# Altium integrated library Microver.IntLib: 9 symbols
Pins are listed as number, name and electrical type; pins without a type are passive.

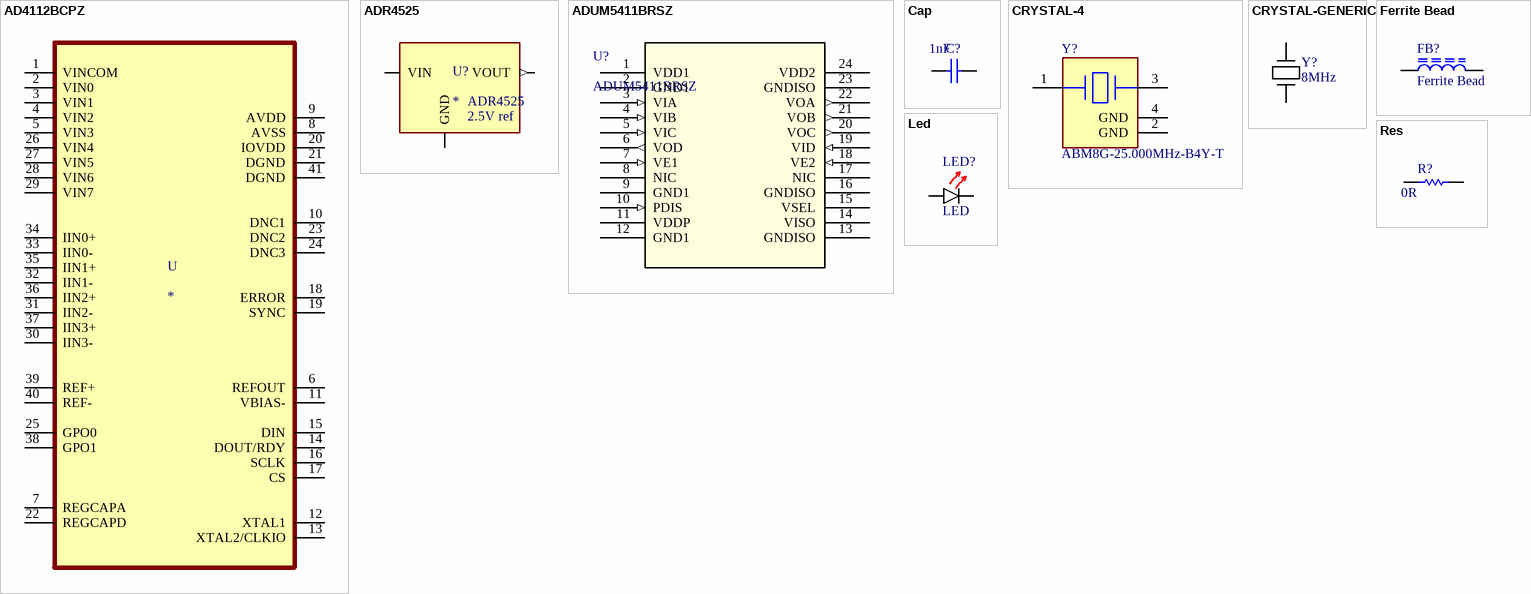
[diagram p0: symbols AD4112BCPZ to Res]

## AD4112BCPZ
designator U
24 Bit Analog to Digital Converter 4, 8 Input 1 Sigma-Delta 40-LFCSP-VQ _6x6_
footprint QFN50P600X600X100-41P
pins: 1 VINCOM, 2 VIN0, 3 VIN1, 4 VIN2, 5 VIN3, 6 REFOUT, 7 REGCAPA, 8 AVSS, 9 AVDD, 10 DNC1, 11 VBIAS-, 12 XTAL1, 13 XTAL2/CLKIO, 14 DOUT/RDY, 15 DIN, 16 SCLK, 17 CS, 18 ERROR, 19 SYNC, 20 IOVDD, 21 DGND, 22 REGCAPD, 23 DNC2, 24 DNC3, 25 GPO0, 26 VIN4, 27 VIN5, 28 VIN6, 29 VIN7, 30 IIN3-, 31 IIN2-, 32 IIN1-, 33 IIN0-, 34 IIN0+, 35 IIN1+, 36 IIN2+, 37 IIN3+, 38 GPO1, 39 REF+, 40 REF-, 41 DGND

## ADR4525
designator U?
Series Voltage Reference IC Fixed 2.5V V Â±0.02% 10 mA 8-SOIC; MF: Analog Devices; MP: ADR4525; SnapEDA_Link: https://www.snapeda.com/parts/ADR4525/Analog+Devices/view-part/?ref=snap; Package: SOIC-8 Analog Devices; Value: *; Check_prices: https://www.snapeda.com/parts/ADR4525/Analog+Devices/view-part/?ref=eda; Manufacturer Part Number: *
footprint SOIC-8
pins: 2 VIN (power), 4 GND (power), 6 VOUT (out)
text: 2.5V ref

## ADUM5411BRSZ
designator U?
Robust 2.5 kV rms Quad-Channel Isolator with Integrated DC-to-DC Converter & 1 Reverse Channel; Manufacturer_Name: Analog Devices Inc; Copyright: Copyright (C) 2025 Ultra Librarian. All rights reserved.; Manufacturer Part Number: ADUM5411BRSZ; Datasheet: https://www.analog.com/media/en/technical-documentation/data-sheets/ADuM5410-5411-5412.pdf; RefDes: RefDes; Type: Type
footprint RS-24_ADI
pins: 1 VDD1 (power), 2 GND1 (power), 3 VIA (in), 4 VIB (in), 5 VIC (in), 6 VOD (out), 7 VE1 (in), 8 NIC, 9 GND1 (power), 10 PDIS (in), 11 VDDP (power), 12 GND1 (power), 13 GNDISO (power), 14 VISO (power), 15 VSEL (power), 16 GNDISO (power), 17 NIC, 18 VE2 (in), 19 VID (in), 20 VOC (out), 21 VOB (out), 22 VOA (out), 23 GNDISO (power), 24 VDD2 (power)

## Cap
designator C?, comment value 1nF  (hidden comment: 100nF)
LCSC PART #: C2894188
footprint 0603_C (Capacitor)
footprint 0805_C
footprint 1206_C
footprint 1210_C
footprint 0402_C
pins: 1, 2

## CRYSTAL-4
designator Y?, comment ABM8G-25.000MHz-B4Y-T
ABRACON - ABM8G-25.000MHZ-B4Y-T - CRYSTAL, 25MHZ, 10PF, 3.2 X 2.5MM; Frequency Stability: 30ppm; ESR (Equivalent Series Resistance): 60R; Supplier 1: Digi-Key; Supplier Part Number 1: 535-10297-1-ND; Manufacturer: Abracon; Manufacturer Part Number: ABM8G-25.000MHZ-B4Y-T; RoHS: Yes; Category: Crystals; Stock 1: 1081; Pricing 1: 1=0,82000, 10=0,72900, 50=0,68120, 100=0,60190, 500=0,57024 (USD); Mount: Surface Mount; Case/Package: SMD/SMT; Number of Pins: 4; Min Operating Temperature: -20°C; Max Operating Temperature: 70°C; Termination: SMD/SMT; Packaging: Tape and Reel; Frequency Tolerance: 30ppm; Load Capacitance: 10pF; Frequency: 25MHz; Package Quantity: 1000; Tolerance: 30ppm; Series Resistance: 60R; Length: 3.2mm; Width: 0.098inch; Height: 0.039inch; Depth: 2.5mm; REACH SVHC: Unknown; Lead Free: Lead Free; ComponentLink1URL: https://datasheet.ciiva.com/7998/abm8g-7998635.pdf?src-supplier=Element14; ComponentLink1Description: https://datasheet.ciiva.com/7998/abm8g-7998635.pdf?src-supplier=Element14; ComponentLink2URL: https://datasheet.ciiva.com/855/abm8g-855228.pdf?src-supplier=Digi-Key; ComponentLink2Description: https://datasheet.ciiva.com/855/abm8g-855228.pdf?src-supplier=Digi-Key; ComponentLink3URL: https://datasheet.ciiva.com/16416/abm8g-16416874.pdf?src-supplier=Future+Electronics; ComponentLink3Description: https://datasheet.ciiva.com/16416/abm8g-16416874.pdf?src-supplier=Future+Electronics; ComponentLink4URL: https://datasheet.ciiva.com/28508/1883677-28508586.pdf?src-supplier=Element14; ComponentLink4Description: https://datasheet.ciiva.com/28508/1883677-28508586.pdf?src-supplier=Element14; ComponentLink5URL: https://datasheet.ciiva.com/855/abm8g-855229.pdf?src-supplier=Digi-Key; ComponentLink5Description: https://datasheet.ciiva.com/855/abm8g-855229.pdf?src-supplier=Digi-Key; ComponentLink6URL: https://datasheet.ciiva.com/855/abm8g-855230.pdf?src-supplier=Digi-Key; ComponentLink6Description: https://datasheet.ciiva.com/855/abm8g-855230.pdf?src-supplier=Digi-Key; ComponentLink7URL: https://datasheet.ciiva.com/4945/abm8g-10572-4945134.pdf?src-supplier=Mouser; ComponentLink7Description: https://datasheet.ciiva.com/4945/abm8g-10572-4945134.pdf?src-supplier=Mouser
footprint FP-ABM8G-MFG
pins: 1, 2 GND (power), 3, 4 GND (power)

## CRYSTAL-GENERIC
designator Y?, comment 8MHz
GENERIC CRYSTAL
pins: 1, 2

## Ferrite Bead
designator FB?
LCSC PART #: C2680672; Value: *; Manufacturer Part Number: *
footprint 0603_FB
pins: 1, 2

## Led
designator LED?, comment LED
Red 640nm LED Indication - Discrete 2.1V Radial; MPN: XLM2MR12D; MF: SunLED; Value: LED RED DIFF 5MM ROUND T-H; Package: Radial; Digi-Key Part Number: XLM2MR12D-ND; Price: 0.16560
footprint 0603_LED
footprint 0805_LED
pins: A, C

## Res
designator R?, comment value 0R  (hidden comment: 10K)
LCSC PART#: C21190
footprint 0603_R
footprint 0805_R
footprint 1206_R
footprint 2010_Res
footprint 0402_R
footprint 2512_R
pins: 1, 2